# Altium footprint library SG__PCB_SOD.PcbLib: 14 footprints
Each footprint in its own frame and in the unit in brackets; x right, y up, seen from the top. Pads: shape width x height; smd on the part's side, far side on the other; paste and mask are expansions set on the pad; w line width, h text height; cw(c..) or ccw(c..) is an arc to the next point about the centre after c.
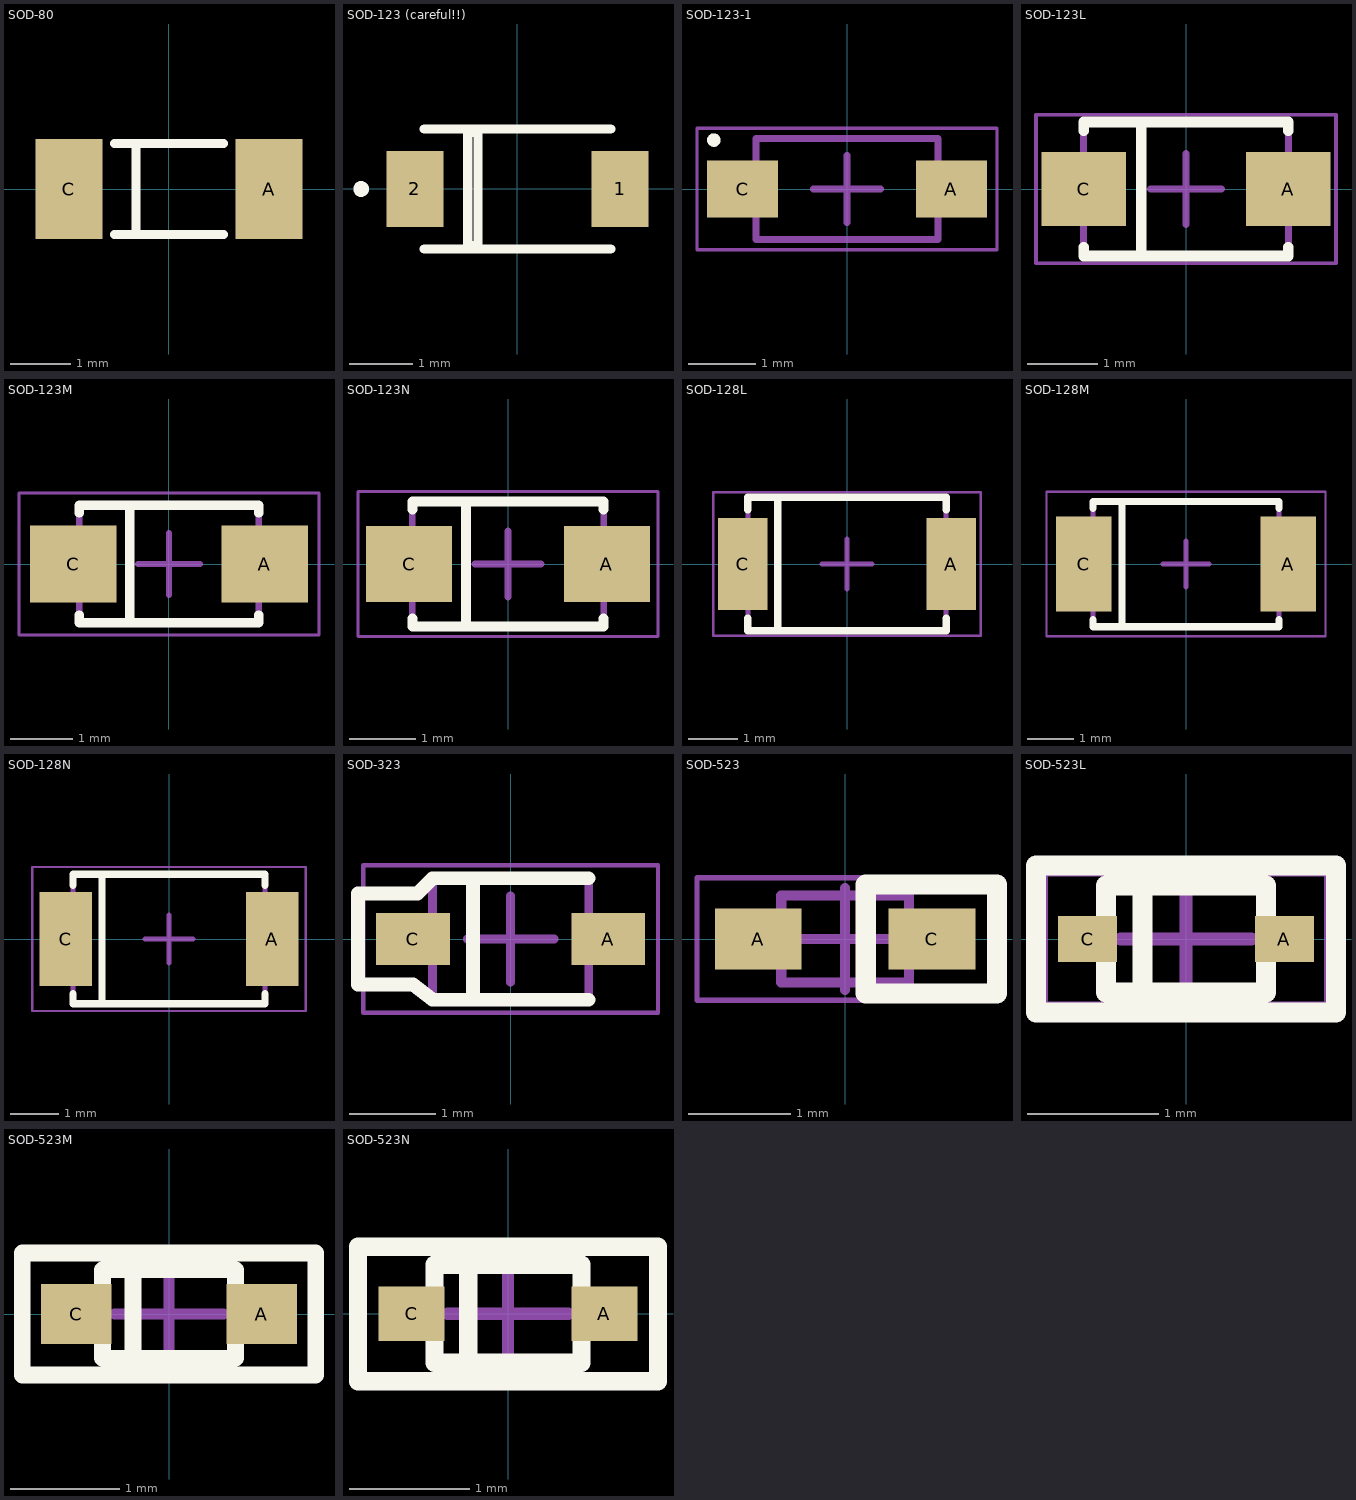
[diagram p0: the footprints below, top view; thin cyan lines are the x and y axes]

## SOD-80 [mm]
pads (2):
  rect 1.1x1.65 smd mask+0.05: A(1.65,0) C(-1.65,0)
Top Overlay:
  lines w0.15: -0.9,-0.75 0.9,-0.75 ; -0.9,0.75 0.9,0.75 ; -0.545,-0.75 -0.545,0.75

## SOD-123 (careful!!) [mm]
pads (2):
  rect 0.9x1.2 smd mask+0.05: 1(1.625,0) 2(-1.625,0)
Top Overlay:
  circle w0.15: c-2.475,0 r0.05
  lines w0.15: -1.475,-0.95 1.475,-0.95 ; -1.475,0.95 1.475,0.95 ; -0.787,-0.9 -0.787,0.9 -0.625,0.9 -0.625,-0.9 -0.787,-0.9

## SOD-123-1 [mm] "SODFL, 2-Leads, Body 1,50x3,60mm, IPC Medium Density"
height 1.3
pads (2):
  rect 1.05x0.85 smd: A(1.55,0) C(-1.55,0)
Top Overlay:
  circle w0.1: c-1.975,0.725 r0.05
Assembly Top:
  lines w0.1: -1.35,-0.75 1.35,-0.75 1.35,0.75 -1.35,0.75 -1.35,-0.75
Courtyard Top:
  lines w0.05: -2.225,-0.9 2.225,-0.9 2.225,0.9 -2.225,0.9 -2.225,-0.9
  lines w0.1: -0.5,0 0.5,0 ; 0,-0.5 0,0.5
3D body: height 1.3, standoff 0, extent -1.35,-0.75 1.35,0.75

## SOD-123L [mm] "SODFL, 2-Leads, Body 1,80x3,65mm, IPC High Density"
height 1.1
pads (2):
  rect 1.2x1.05 smd: A(1.45,0) C(-1.45,0)
Top Overlay:
  lines w0.152: -1.45,-0.825 -1.45,-0.95 1.45,-0.95 1.45,-0.825 ; -1.45,0.825 -1.45,0.95 1.45,0.95 1.45,0.825 ; -0.762,-0.95 -0.635,-0.95 -0.635,0.95
Assembly Top:
  lines w0.1: -1.45,-0.95 -1.45,0.95 1.45,0.95 1.45,-0.95 -1.45,-0.95
Courtyard Top:
  lines w0.05: -2.125,-1.05 -2.125,1.05 2.125,1.05 2.125,-1.05 -2.125,-1.05
  lines w0.1: -0.5,0 0.5,0 ; 0,-0.5 0,0.5
3D body "SODFL365X110-2L.step": height 1.1, standoff 0, extent -1.825,-0.95 1.825,0.95

## SOD-123M [mm] "SODFL, 2-Leads, Body 1,80x3,65mm, IPC Low Density"
height 1.1
pads (2):
  rect 1.4x1.25 smd: A(1.55,0) C(-1.55,0)
Top Overlay:
  lines w0.152: -1.45,-0.825 -1.45,-0.95 1.45,-0.95 1.45,-0.825 ; -1.45,0.825 -1.45,0.95 1.45,0.95 1.45,0.825 ; -0.762,-0.95 -0.635,-0.95 -0.635,0.95
Assembly Top:
  lines w0.1: -1.45,-0.95 1.45,-0.95 1.45,0.95 -1.45,0.95 -1.45,-0.95
Courtyard Top:
  lines w0.05: -2.425,-1.15 2.425,-1.15 2.425,1.15 -2.425,1.15 -2.425,-1.15
  lines w0.1: -0.5,0 0.5,0 ; 0,-0.5 0,0.5
3D body "SODFL365X110-2M.step": height 1.1, standoff 0, extent -1.825,-0.95 1.825,0.95

## SOD-123N [mm] "SODFL, 2-Leads, Body 1,80x3,65mm, IPC Medium Density"
height 1.1
pads (2):
  rect 1.3x1.15 smd: A(1.5,0) C(-1.5,0)
Top Overlay:
  lines w0.152: -1.45,-0.825 -1.45,-0.95 1.45,-0.95 1.45,-0.825 ; -1.45,0.825 -1.45,0.95 1.45,0.95 1.45,0.825 ; -0.889,-0.95 -0.635,-0.95 -0.635,0.95
Assembly Top:
  lines w0.1: -1.45,-0.95 1.45,-0.95 1.45,0.95 -1.45,0.95 -1.45,-0.95
Courtyard Top:
  lines w0.05: -2.275,-1.1 2.275,-1.1 2.275,1.1 -2.275,1.1 -2.275,-1.1
  lines w0.1: -0.5,0 0.5,0 ; 0,-0.5 0,0.5
3D body "SODFL365X110-2N.step": height 1.1, standoff 0, extent -1.825,-0.95 1.825,0.95

## SOD-128L [mm] "SODFL, 2-Leads, Body 2,50x4,70mm, IPC High Density"
height 1.1
pads (2):
  rect 1x1.85 smd: A(2.1,0) C(-2.1,0)
Top Overlay:
  lines w0.152: -2,-1.092 -2,-1.35 2,-1.35 2,-1.092 ; -2,1.092 -2,1.35 2,1.35 2,1.092 ; -1.448,-1.35 -1.397,-1.35 -1.397,1.35
Assembly Top:
  lines w0.1: -2,-1.35 2,-1.35 2,1.35 -2,1.35 -2,-1.35
Courtyard Top:
  lines w0.05: -2.7,-1.45 2.7,-1.45 2.7,1.45 -2.7,1.45 -2.7,-1.45
  lines w0.1: -0.5,0 0.5,0 ; 0,-0.5 0,0.5
3D body "SODFL470X110-2L.step": height 1.1, standoff 0, extent -2.35,-1.35 2.35,1.35

## SOD-128M [mm] "SODFL, 2-Leads, Body 2,50x4,70mm, IPC Low Density"
height 1.1
pads (2):
  rect 1.2x2.05 smd: A(2.2,0) C(-2.2,0)
Top Overlay:
  lines w0.152: -2,-1.194 -2,-1.35 2,-1.35 2,-1.194 ; -2,1.194 -2,1.346 2,1.346 2,1.194 ; -1.524,-1.35 -1.372,-1.35 -1.372,1.346
Assembly Top:
  lines w0.1: -2,-1.35 2,-1.35 2,1.35 -2,1.35 -2,-1.35
Courtyard Top:
  lines w0.05: -3,-1.55 3,-1.55 3,1.55 -3,1.55 -3,-1.55
  lines w0.1: -0.5,0 0.5,0 ; 0,-0.5 0,0.5
3D body "SODFL470X110-2M.step": height 1.1, standoff 0, extent -2.35,-1.35 2.35,1.35

## SOD-128N [mm] "SODFL, 2-Leads, Body 2,50x4,70mm, IPC Medium Density"
height 1.1
pads (2):
  rect 1.1x1.95 smd: A(2.15,0) C(-2.15,0)
Top Overlay:
  lines w0.152: -2,-1.143 -2,-1.35 2,-1.35 2,-1.143 ; -2,1.118 -2,1.35 2,1.35 2,1.118 ; -1.727,-1.35 -1.397,-1.35 -1.397,1.346
Assembly Top:
  lines w0.1: -2,-1.35 -2,1.35 2,1.35 2,-1.35 -2,-1.35
Courtyard Top:
  lines w0.05: -2.85,-1.5 -2.85,1.5 2.85,1.5 2.85,-1.5 -2.85,-1.5
  lines w0.1: -0.5,0 0.5,0 ; 0,-0.5 0,0.5
3D body "SODFL470X110-2N.step": height 1.1, standoff 0, extent -2.35,-1.35 2.35,1.35

## SOD-323 [mm]
height 1.1
pads (2):
  rect 0.85x0.6 smd: A(1.125,0) C(-1.125,0)
Top Overlay:
  lines w0.16: -0.635,-0.7 -0.432,-0.7 -0.432,0.7 ; 0.9,-0.7 -0.9,-0.7 -1.125,-0.525 -1.759,-0.525 -1.759,0.525 -1.075,0.525 -0.9,0.7 0.9,0.7
Assembly Top:
  lines w0.1: -0.9,-0.675 -0.9,0.675 0.9,0.675 0.9,-0.675 -0.9,-0.675
Courtyard Top:
  lines w0.05: -1.7,-0.85 -1.7,0.85 1.7,0.85 1.7,-0.85 -1.7,-0.85
  lines w0.1: -0.5,0 0.5,0 ; 0,-0.5 0,0.5
3D body "SOD-323F.STEP": height 0.79, standoff -0.08, extent -1.3,-0.675 1.4,0.675

## SOD-523 [mm] "SODFL, 2-Leads, Body 0.80x2.08mm, IPC Medium Density"
height 0.65
pads (2):
  rect 0.85x0.6 smd: A(-0.85,0) C(0.85,0)
Top Overlay:
  lines w0.2: 0.432,0.533 1.487,0.533 1.487,-0.533 0.202,-0.533 0.202,0.533 0.457,0.533
Assembly Top:
  lines w0.1: -0.625,-0.425 -0.625,0.425 0.625,0.425 0.625,-0.425 -0.625,-0.425
Courtyard Top:
  lines w0.05: -1.45,-0.6 -1.45,0.6 1.45,0.6 1.45,-0.6 -1.45,-0.6
  lines w0.1: -0.5,0 0.5,0 ; 0,-0.5 0,0.5
3D body "SOD-523F.step": height 0.7, standoff 0, extent -0.8,-0.398 0.8,0.4

## SOD-523L [mm] "SODFL, 2-Leads, Body 0,80x1,60mm, IPC High Density"
height 0.77
pads (2):
  rect 0.45x0.35 smd: A(0.75,0) C(-0.75,0)
Top Overlay:
  lines w0.152: -0.33,0.406 -0.33,-0.406 -0.305,-0.406 ; 1.143,-0.152 1.143,0.559 -0.914,0.559 -1.143,0.559 -1.143,0.102 -1.143,-0.559 1.092,-0.559 1.143,-0.559 1.143,-0.127 ; -0.61,-0.406 -0.61,0.406 0.61,0.406 0.61,-0.406 -0.61,-0.406
Assembly Top:
  lines w0.1: -0.6,-0.4 0.6,-0.4 0.6,0.4 -0.6,0.4 -0.6,-0.4
Courtyard Top:
  lines w0.05: -1.075,-0.5 1.075,-0.5 1.075,0.5 -1.075,0.5 -1.075,-0.5
  lines w0.1: -0.5,0 0.5,0 ; 0,-0.5 0,0.5
3D body "SODFL160X77-2L.step": height 0.77, standoff 0, extent -0.8,-0.4 0.8,0.4

## SOD-523M [mm] "SODFL, 2-Leads, Body 0,80x1,60mm, IPC Low Density"
height 0.77
pads (2):
  rect 0.65x0.55 smd: A(0.85,0) C(-0.85,0)
Top Overlay:
  lines w0.152: -0.356,-0.406 -0.33,-0.406 -0.33,0.406 ; -1.346,-0.559 -1.346,0.559 1.346,0.559 1.346,-0.305 1.346,-0.559 -1.346,-0.559 ; -0.61,-0.406 0.61,-0.406 0.61,0.406 0.254,0.406 -0.61,0.406 -0.61,-0.406
Assembly Top:
  lines w0.1: -0.6,-0.4 0.6,-0.4 0.6,0.4 -0.6,0.4 -0.6,-0.4
Courtyard Top:
  lines w0.05: -1.375,-0.6 1.375,-0.6 1.375,0.6 -1.375,0.6 -1.375,-0.6
  lines w0.1: -0.5,0 0.5,0 ; 0,-0.5 0,0.5
3D body "SODFL160X77-2M.step": height 0.77, standoff 0, extent -0.8,-0.4 0.8,0.4

## SOD-523N [mm] "SODFL, 2-Leads, Body 0,80x1,60mm, IPC Medium Density"
height 0.77
pads (2):
  rect 0.55x0.45 smd: A(0.8,0) C(-0.8,0)
Top Overlay:
  lines w0.152: -0.356,-0.406 -0.33,-0.406 -0.33,0.406 ; 1.245,-0.203 1.245,0.554 -1.245,0.554 -1.245,-0.559 1.245,-0.559 1.245,-0.178 ; -0.61,-0.406 0.61,-0.406 0.61,0.406 -0.61,0.406 -0.61,-0.406
Assembly Top:
  lines w0.1: -0.6,-0.4 -0.6,0.4 0.6,0.4 0.6,-0.4 -0.6,-0.4
Courtyard Top:
  lines w0.05: -1.225,-0.55 -1.225,0.55 1.225,0.55 1.225,-0.55 -1.225,-0.55
  lines w0.1: -0.5,0 0.5,0 ; 0,-0.5 0,0.5
3D body "SODFL160X77-2N.step": height 0.77, standoff 0, extent -0.8,-0.4 0.8,0.4